# EAGLE library part PCB-MOUNT-TRANSFORMER (library transformer-6pin)
6-pins coil Transformer 0-24 AC PCB Mount Transformer Source Guru Electronics
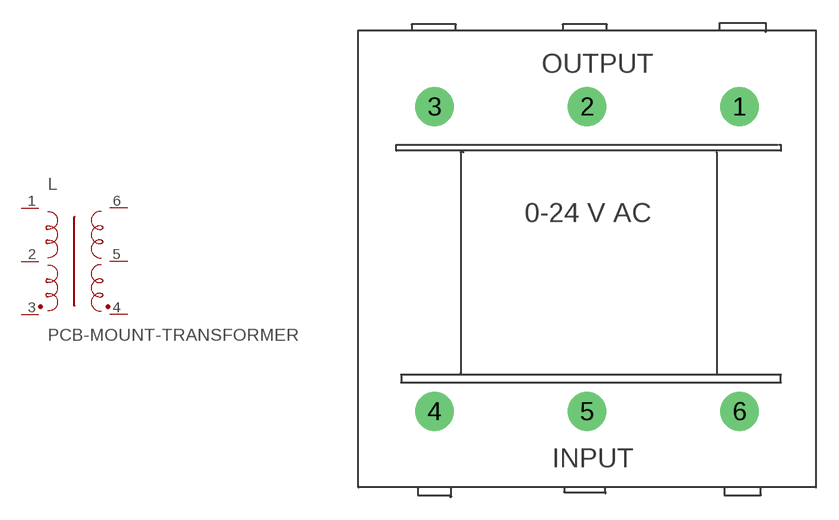
[diagram p0: symbol with the pads of 6PIN-0-24VAC; footprint 6PIN-0-24VAC]

Designator prefix L

## PCB-MOUNT-TRANSFORMER  [6PIN-0-24VAC]
1  1  pas
2  2  pas
3  3  pas
4  4  pas
5  5  pas
6  6  pas

## Footprint 6PIN-0-24VAC (pad centres in mm)
6-pins coil Transformer Transformer Source: Guru Electronics
drill 1.3 pad 2.54: 1 10.1,10.3; 2 0.1,10.3; 3 -9.9,10.3; 4 -9.9,-9.7; 5 0.1,-9.7; 6 10.1,-9.7